# Altium schematic symbol library RES 12.1k 1_8W.Schlib: 1 symbol
Pins are listed as number, name and electrical type; pins without a type are passive.

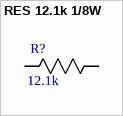
[diagram p0: symbol RES 12.1k 1/8W]

## RES 12.1k 1/8W
designator R?, comment 12.1k
RES SMD 12.1K OHM 1% 1/8W 0805
pins: 1 R1, 2 R2